# Altium footprint library txc_xtal_9ht10.PcbLib: 1 footprints
Each footprint in its own frame and in the unit in brackets; x right, y up, seen from the top. Pads: shape width x height; smd on the part's side, far side on the other; paste and mask are expansions set on the pad; w line width, h text height; cw(c..) or ccw(c..) is an arc to the next point about the centre after c.
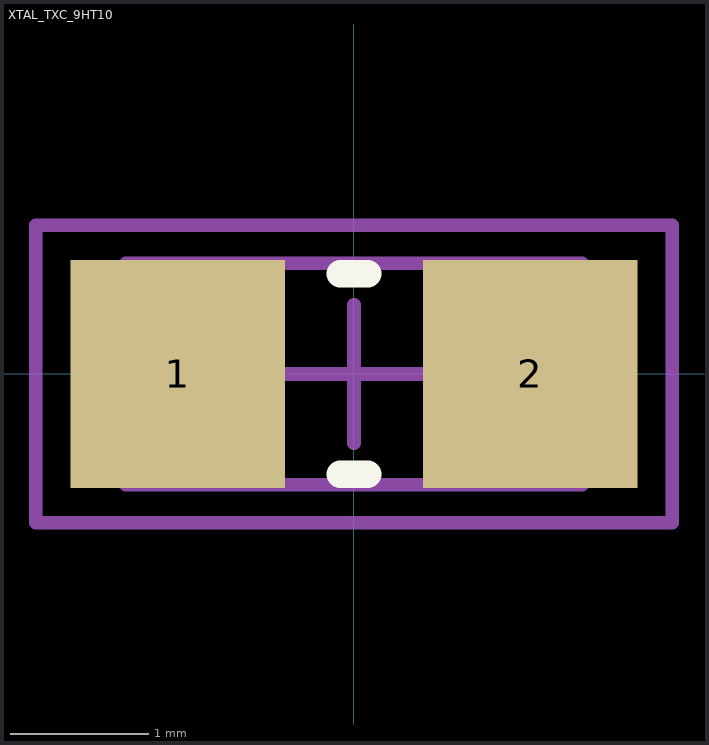
[diagram p0: the footprint, top view; thin cyan lines are the x and y axes]

## XTAL_TXC_9HT10 [mm] "Chip Capacitor, 2-Leads, Body 3.2x1.5mm, IPC Medium Density"
height 0.85
pads (2):
  rect 1.55x1.65 smd: 1(-1.275,0) 2(1.275,0)
Top Overlay:
  lines w0.2: -0.1,-0.725 0.1,-0.725 ; -0.1,0.725 0.1,0.725
Top 3D Body:
  lines w0.1: -1.65,-0.8 -1.65,0.8 1.65,0.8 1.65,-0.8 -1.65,-0.8
Top Courtyard:
  lines w0.1: -0.5,0 0.5,0 ; 0,-0.5 0,0.5 ; -2.3,-1.075 -2.3,1.075 2.3,1.075 2.3,-1.075 -2.3,-1.075
3D body: height 0.85, standoff 0, extent -1.65,-0.8 1.65,0.8